# EAGLE library part F2255 (library rf-jqi)
F2255, 1-3000 MHz VVA
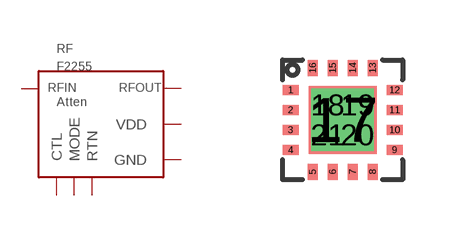
[diagram p15: symbol with the pads of QFN-16(0.9X3X3); footprint QFN-16(0.9X3X3)]

Designator prefix RF

## F2255  [QFN-16(0.9X3X3)]
1  GND
2  GND
3  RFIN
4  GND
5  RTN
6  RTN
7  GND
8  RTN
9  GND
10  RFOUT
11  GND
12  GND
13  GND
14  CTL
15  VDD
16  MODE
17  GND
18  GND
19  GND
20  GND
21  GND

## Footprint QFN-16(0.9X3X3) (pad centres in mm)
smd 0.4 x 0.25: 1 -1.3,0.75; 2 -1.3,0.25; 3 -1.3,-0.25; 4 -1.3,-0.75; 9 1.3,-0.75; 10 1.3,-0.25; 11 1.3,0.25; 12 1.3,0.75
smd 0.25 x 0.4: 5 -0.75,-1.3; 6 -0.25,-1.3; 7 0.25,-1.3; 8 0.75,-1.3; 13 0.75,1.3; 14 0.25,1.3; 15 -0.25,1.3; 16 -0.75,1.3
smd 1.7 x 1.7: 17 0,0
drill 0.305 square: 18 -0.375,0.375; 19 0.375,0.375; 20 0.375,-0.375; 21 -0.375,-0.375